# EAGLE library part BLUETUNESROM (library Bluetunes)
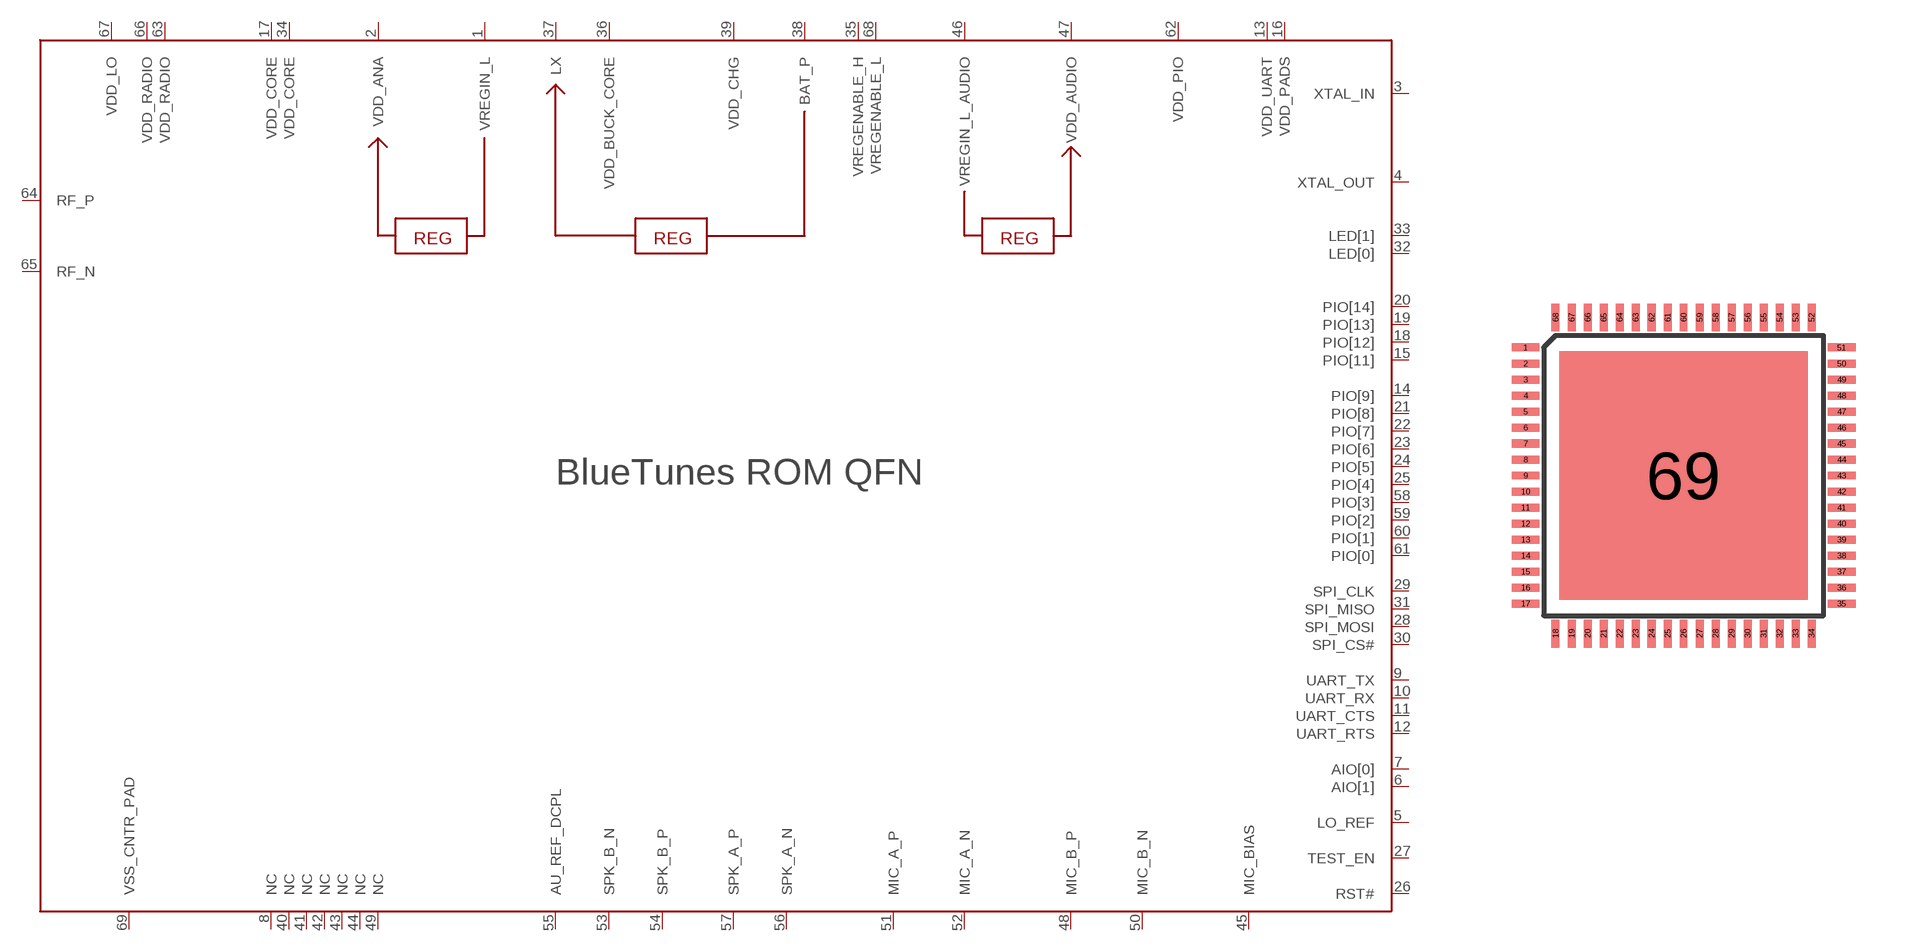
[diagram p0: symbol with the pads of QFN-68; footprint QFN-68]

Designator prefix -

## BLUETUNESROM  [QFN-68]
1  VREGIN_L
2  VDD_ANA
3  XTAL_IN
4  XTAL_OUT
5  LO_REF
6  AIO[1]
7  AIO[0]
8  NC  nc
9  UART_TX
10  UART_RX
11  UART_CTS
12  UART_RTS
13  VDD_UART
14  PIO[9]
15  PIO[11]
16  VDD_PADS
17  VDD_CORE
18  PIO[12]
19  PIO[13]
20  PIO[14]
21  PIO[8]
22  PIO[7]
23  PIO[6]
24  PIO[5]
25  PIO[4]
26  RST#
27  TEST_EN
28  SPI_MOSI
29  SPI_CLK
30  SPI_CS#
31  SPI_MISO
32  LED[0]
33  LED[1]
34  VDD_CORE
35  VREGENABLE_H
36  VDD_BUCK_CORE
37  LX
38  BAT_P
39  VDD_CHG
40  NC  nc
41  NC  nc
42  NC  nc
43  NC  nc
44  NC  nc
45  MIC_BIAS
46  VREGIN_L_AUDIO
47  VDD_AUDIO
48  MIC_B_P
49  NC  nc
50  MIC_B_N
51  MIC_A_P
52  MIC_A_N
53  SPK_B_N
54  SPK_B_P
55  AU_REF_DCPL
56  SPK_A_N
57  SPK_A_P
58  PIO[3]
59  PIO[2]
60  PIO[1]
61  PIO[0]
62  VDD_PIO
63  VDD_RADIO
64  RF_P
65  RF_N
66  VDD_RADIO
67  VDD_LO
68  VREGENABLE_L
69  VSS_CNTR_PAD

## Footprint QFN-68 (pad centres in mm)
smd 0.7 x 0.2: 1 -3.95,3.2; 2 -3.95,2.8; 3 -3.95,2.4; 4 -3.95,2; 5 -3.95,1.6; 6 -3.95,1.2; 7 -3.95,0.8; 8 -3.95,0.4; 9 -3.95,0; 10 -3.95,-0.4; 11 -3.95,-0.8; 12 -3.95,-1.2; 13 -3.95,-1.6; 14 -3.95,-2; 15 -3.95,-2.4; 16 -3.95,-2.8; 17 -3.95,-3.2; 35 3.95,-3.2; 36 3.95,-2.8; 37 3.95,-2.4; 38 3.95,-2; 39 3.95,-1.6; 40 3.95,-1.2; 41 3.95,-0.8; 42 3.95,-0.4; 43 3.95,0; 44 3.95,0.4; 45 3.95,0.8; 46 3.95,1.2; 47 3.95,1.6; 48 3.95,2; 49 3.95,2.4; 50 3.95,2.8; 51 3.95,3.2
smd 0.2 x 0.7: 18 -3.2,-3.95; 19 -2.8,-3.95; 20 -2.4,-3.95; 21 -2,-3.95; 22 -1.6,-3.95; 23 -1.2,-3.95; 24 -0.8,-3.95; 25 -0.4,-3.95; 26 0,-3.95; 27 0.4,-3.95; 28 0.8,-3.95; 29 1.2,-3.95; 30 1.6,-3.95; 31 2,-3.95; 32 2.4,-3.95; 33 2.8,-3.95; 34 3.2,-3.95; 52 3.2,3.95; 53 2.8,3.95; 54 2.4,3.95; 55 2,3.95; 56 1.6,3.95; 57 1.2,3.95; 58 0.8,3.95; 59 0.4,3.95; 60 0,3.95; 61 -0.4,3.95; 62 -0.8,3.95; 63 -1.2,3.95; 64 -1.6,3.95; 65 -2,3.95; 66 -2.4,3.95; 67 -2.8,3.95; 68 -3.2,3.95
smd 6.2 x 6.2: 69 0,0